# Altium footprint library Mounting_Wuerth.PcbLib: 191 footprints (part 6 of 12)
Each footprint in its own frame and in the unit in brackets; x right, y up, seen from the top. Pads: shape width x height; smd on the part's side, far side on the other; paste and mask are expansions set on the pad; w line width, h text height; cw(c..) or ccw(c..) is an arc to the next point about the centre after c.
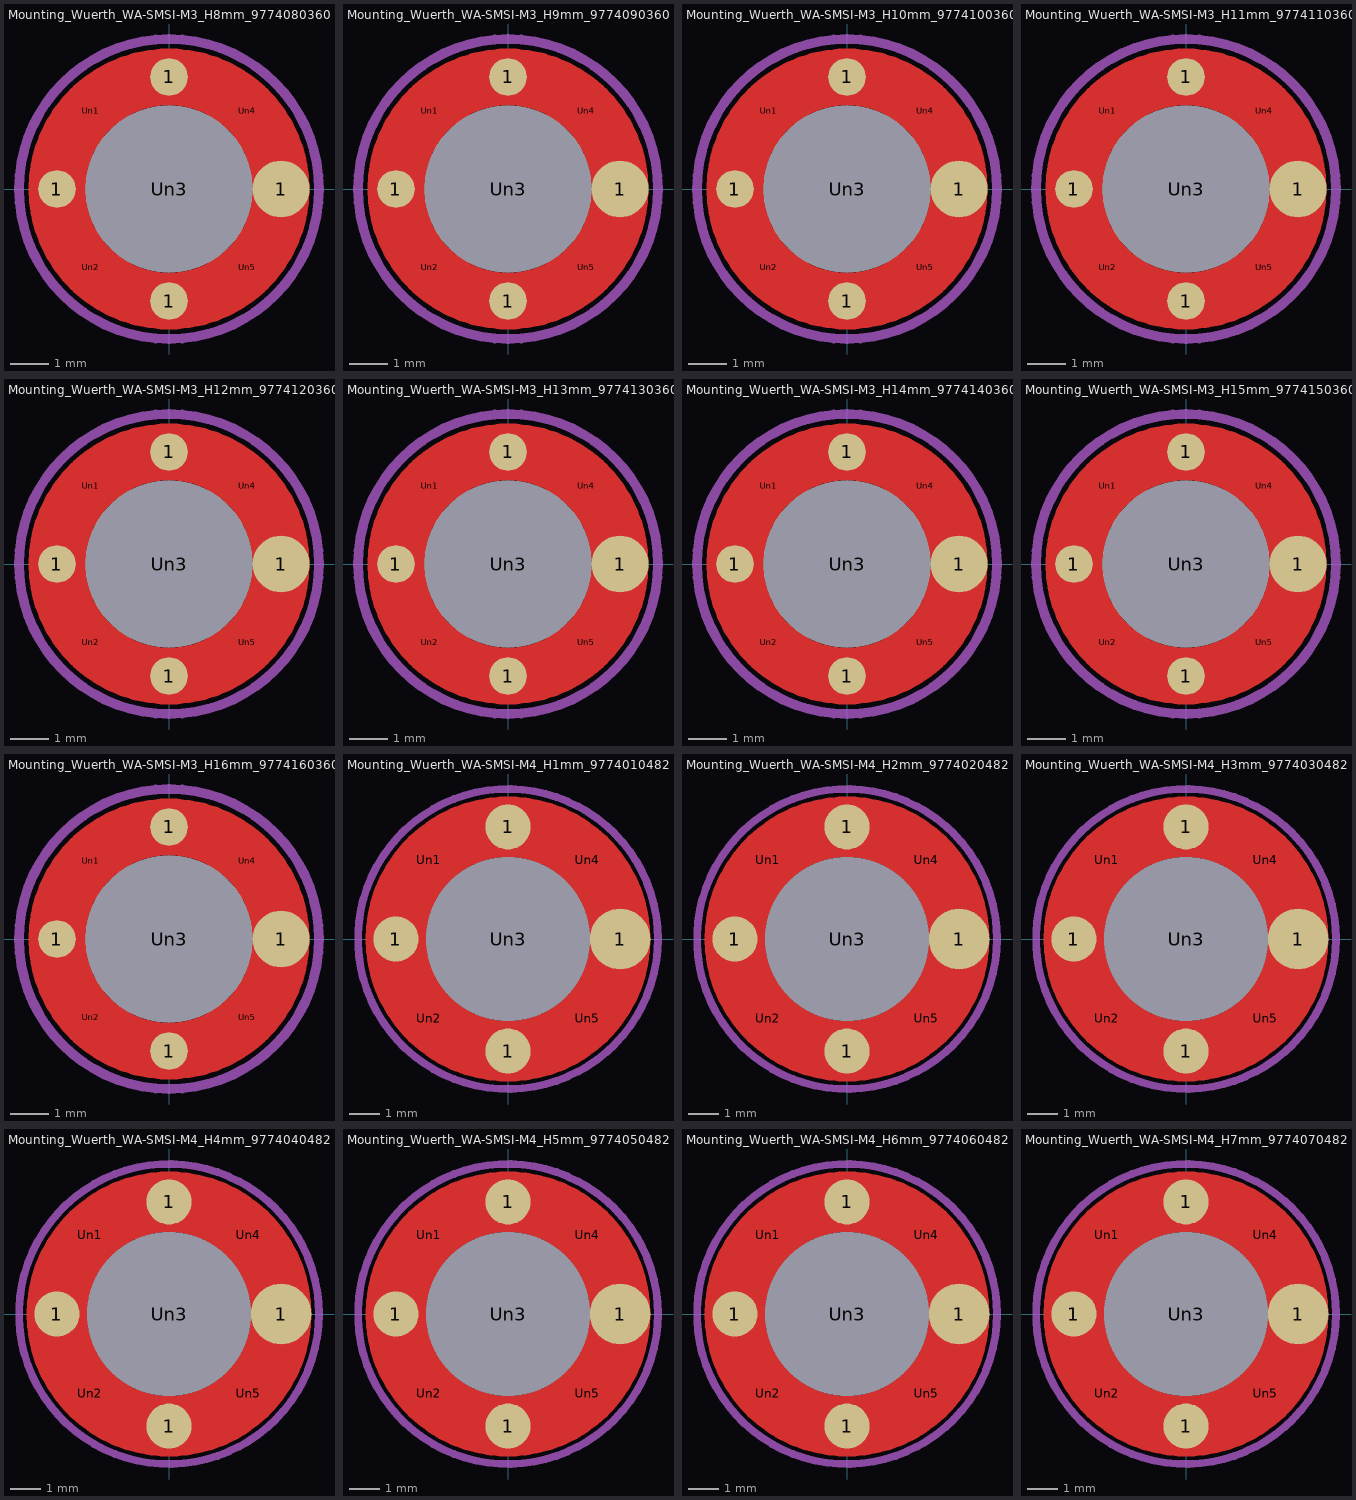
[diagram p5: the footprints below, top view; thin cyan lines are the x and y axes]

## Mounting_Wuerth_WA-SMSI-M3_H8mm_9774080360 [mm]
pads (9):
  round 0.992 smd: 1(-2.95,0) 1(0,-2.95) 1(0,2.95)
  round 1.5 smd: 1(2.95,0)
  round 0.55 on Top Paste: Un1(-2.058,2.058) Un2(-2.058,-2.058) Un4(2.058,2.058) Un5(2.058,-2.058)
  round 4.4 hole 4.4: Un3(0,0)
F.Cu:
  circle w1.5: c0,0 r2.95
F.Paste:
  lines w0.2: -3.342,-0.35 -2.435,-0.35 ; -3.342,0.35 -2.435,0.35 ; -0.35,-3.342 -0.35,-2.435 ; -0.35,2.435 -0.35,3.342 ; 0.35,-3.342 0.35,-2.435 ; 0.35,2.435 0.35,3.342 ; 2.435,-0.35 3.342,-0.35 ; 2.435,0.35 3.342,0.35
F.Mask:
  circle w1.5: c0,0 r2.95
Top Assembly:
  circle w0.254: c0,0 r3
  text "'.Designator'" at -4.047,-0.84 h1
Top Courtyard:
  circle w0.254: c0,0 r3.95
Top Designator:
  text ".Designator" at -7.677,-0.508 h1.52
3D body "Mounting_Wuerth_WA-SMSI-M3_H8mm_9774080360.step": height 8, standoff -1.4, extent -3,-3 3,3

## Mounting_Wuerth_WA-SMSI-M3_H9mm_9774090360 [mm]
pads (9):
  round 0.992 smd: 1(-2.95,0) 1(0,-2.95) 1(0,2.95)
  round 1.5 smd: 1(2.95,0)
  round 0.55 on Top Paste: Un1(-2.058,2.058) Un2(-2.058,-2.058) Un4(2.058,2.058) Un5(2.058,-2.058)
  round 4.4 hole 4.4: Un3(0,0)
F.Cu:
  circle w1.5: c0,0 r2.95
F.Paste:
  lines w0.2: -3.342,-0.35 -2.435,-0.35 ; -3.342,0.35 -2.435,0.35 ; -0.35,-3.342 -0.35,-2.435 ; -0.35,2.435 -0.35,3.342 ; 0.35,-3.342 0.35,-2.435 ; 0.35,2.435 0.35,3.342 ; 2.435,-0.35 3.342,-0.35 ; 2.435,0.35 3.342,0.35
F.Mask:
  circle w1.5: c0,0 r2.95
Top Assembly:
  circle w0.254: c0,0 r3
  text "'.Designator'" at -4.047,-0.84 h1
Top Courtyard:
  circle w0.254: c0,0 r3.95
Top Designator:
  text ".Designator" at -7.677,-0.508 h1.52
3D body "Mounting_Wuerth_WA-SMSI-M3_H9mm_9774090360.step": height 9, standoff -1.4, extent -3,-3 3,3

## Mounting_Wuerth_WA-SMSI-M3_H10mm_9774100360 [mm]
pads (9):
  round 0.992 smd: 1(-2.95,0) 1(0,-2.95) 1(0,2.95)
  round 1.5 smd: 1(2.95,0)
  round 0.55 on Top Paste: Un1(-2.058,2.058) Un2(-2.058,-2.058) Un4(2.058,2.058) Un5(2.058,-2.058)
  round 4.4 hole 4.4: Un3(0,0)
F.Cu:
  circle w1.5: c0,0 r2.95
F.Paste:
  lines w0.2: -3.342,-0.35 -2.435,-0.35 ; -3.342,0.35 -2.435,0.35 ; -0.35,-3.342 -0.35,-2.435 ; -0.35,2.435 -0.35,3.342 ; 0.35,-3.342 0.35,-2.435 ; 0.35,2.435 0.35,3.342 ; 2.435,-0.35 3.342,-0.35 ; 2.435,0.35 3.342,0.35
F.Mask:
  circle w1.5: c0,0 r2.95
Top Assembly:
  circle w0.254: c0,0 r3
  text "'.Designator'" at -4.047,-0.84 h1
Top Courtyard:
  circle w0.254: c0,0 r3.95
Top Designator:
  text ".Designator" at -7.677,-0.508 h1.52
3D body "Mounting_Wuerth_WA-SMSI-M3_H10mm_9774100360.step": height 10, standoff -1.4, extent -3,-3 3,3

## Mounting_Wuerth_WA-SMSI-M3_H11mm_9774110360 [mm]
pads (9):
  round 0.992 smd: 1(-2.95,0) 1(0,-2.95) 1(0,2.95)
  round 1.5 smd: 1(2.95,0)
  round 0.55 on Top Paste: Un1(-2.058,2.058) Un2(-2.058,-2.058) Un4(2.058,2.058) Un5(2.058,-2.058)
  round 4.4 hole 4.4: Un3(0,0)
F.Cu:
  circle w1.5: c0,0 r2.95
F.Paste:
  lines w0.2: -3.342,-0.35 -2.435,-0.35 ; -3.342,0.35 -2.435,0.35 ; -0.35,-3.342 -0.35,-2.435 ; -0.35,2.435 -0.35,3.342 ; 0.35,-3.342 0.35,-2.435 ; 0.35,2.435 0.35,3.342 ; 2.435,-0.35 3.342,-0.35 ; 2.435,0.35 3.342,0.35
F.Mask:
  circle w1.5: c0,0 r2.95
Top Assembly:
  circle w0.254: c0,0 r3
  text "'.Designator'" at -4.047,-0.84 h1
Top Courtyard:
  circle w0.254: c0,0 r3.95
Top Designator:
  text ".Designator" at -7.677,-0.508 h1.52
3D body "Mounting_Wuerth_WA-SMSI-M3_H11mm_9774110360.step": height 11, standoff -1.4, extent -3,-3 3,3

## Mounting_Wuerth_WA-SMSI-M3_H12mm_9774120360 [mm]
pads (9):
  round 0.992 smd: 1(-2.95,0) 1(0,-2.95) 1(0,2.95)
  round 1.5 smd: 1(2.95,0)
  round 0.55 on Top Paste: Un1(-2.058,2.058) Un2(-2.058,-2.058) Un4(2.058,2.058) Un5(2.058,-2.058)
  round 4.4 hole 4.4: Un3(0,0)
F.Cu:
  circle w1.5: c0,0 r2.95
F.Paste:
  lines w0.2: -3.342,-0.35 -2.435,-0.35 ; -3.342,0.35 -2.435,0.35 ; -0.35,-3.342 -0.35,-2.435 ; -0.35,2.435 -0.35,3.342 ; 0.35,-3.342 0.35,-2.435 ; 0.35,2.435 0.35,3.342 ; 2.435,-0.35 3.342,-0.35 ; 2.435,0.35 3.342,0.35
F.Mask:
  circle w1.5: c0,0 r2.95
Top Assembly:
  circle w0.254: c0,0 r3
  text "'.Designator'" at -4.047,-0.84 h1
Top Courtyard:
  circle w0.254: c0,0 r3.95
Top Designator:
  text ".Designator" at -7.677,-0.508 h1.52
3D body "Mounting_Wuerth_WA-SMSI-M3_H12mm_9774120360.step": height 12, standoff -1.4, extent -3,-3 3,3

## Mounting_Wuerth_WA-SMSI-M3_H13mm_9774130360 [mm]
pads (9):
  round 0.992 smd: 1(-2.95,0) 1(0,-2.95) 1(0,2.95)
  round 1.5 smd: 1(2.95,0)
  round 0.55 on Top Paste: Un1(-2.058,2.058) Un2(-2.058,-2.058) Un4(2.058,2.058) Un5(2.058,-2.058)
  round 4.4 hole 4.4: Un3(0,0)
F.Cu:
  circle w1.5: c0,0 r2.95
F.Paste:
  lines w0.2: -3.342,-0.35 -2.435,-0.35 ; -3.342,0.35 -2.435,0.35 ; -0.35,-3.342 -0.35,-2.435 ; -0.35,2.435 -0.35,3.342 ; 0.35,-3.342 0.35,-2.435 ; 0.35,2.435 0.35,3.342 ; 2.435,-0.35 3.342,-0.35 ; 2.435,0.35 3.342,0.35
F.Mask:
  circle w1.5: c0,0 r2.95
Top Assembly:
  circle w0.254: c0,0 r3
  text "'.Designator'" at -4.047,-0.84 h1
Top Courtyard:
  circle w0.254: c0,0 r3.95
Top Designator:
  text ".Designator" at -7.677,-0.508 h1.52
3D body "Mounting_Wuerth_WA-SMSI-M3_H13mm_9774130360.step": height 13, standoff -1.4, extent -3,-3 3,3

## Mounting_Wuerth_WA-SMSI-M3_H14mm_9774140360 [mm]
pads (9):
  round 0.992 smd: 1(-2.95,0) 1(0,-2.95) 1(0,2.95)
  round 1.5 smd: 1(2.95,0)
  round 0.55 on Top Paste: Un1(-2.058,2.058) Un2(-2.058,-2.058) Un4(2.058,2.058) Un5(2.058,-2.058)
  round 4.4 hole 4.4: Un3(0,0)
F.Cu:
  circle w1.5: c0,0 r2.95
F.Paste:
  lines w0.2: -3.342,-0.35 -2.435,-0.35 ; -3.342,0.35 -2.435,0.35 ; -0.35,-3.342 -0.35,-2.435 ; -0.35,2.435 -0.35,3.342 ; 0.35,-3.342 0.35,-2.435 ; 0.35,2.435 0.35,3.342 ; 2.435,-0.35 3.342,-0.35 ; 2.435,0.35 3.342,0.35
F.Mask:
  circle w1.5: c0,0 r2.95
Top Assembly:
  circle w0.254: c0,0 r3
  text "'.Designator'" at -4.047,-0.84 h1
Top Courtyard:
  circle w0.254: c0,0 r3.95
Top Designator:
  text ".Designator" at -7.677,-0.508 h1.52
3D body "Mounting_Wuerth_WA-SMSI-M3_H14mm_9774140360.step": height 14, standoff -1.4, extent -3,-3 3,3

## Mounting_Wuerth_WA-SMSI-M3_H15mm_9774150360 [mm]
pads (9):
  round 0.992 smd: 1(-2.95,0) 1(0,-2.95) 1(0,2.95)
  round 1.5 smd: 1(2.95,0)
  round 0.55 on Top Paste: Un1(-2.058,2.058) Un2(-2.058,-2.058) Un4(2.058,2.058) Un5(2.058,-2.058)
  round 4.4 hole 4.4: Un3(0,0)
F.Cu:
  circle w1.5: c0,0 r2.95
F.Paste:
  lines w0.2: -3.342,-0.35 -2.435,-0.35 ; -3.342,0.35 -2.435,0.35 ; -0.35,-3.342 -0.35,-2.435 ; -0.35,2.435 -0.35,3.342 ; 0.35,-3.342 0.35,-2.435 ; 0.35,2.435 0.35,3.342 ; 2.435,-0.35 3.342,-0.35 ; 2.435,0.35 3.342,0.35
F.Mask:
  circle w1.5: c0,0 r2.95
Top Assembly:
  circle w0.254: c0,0 r3
  text "'.Designator'" at -4.047,-0.84 h1
Top Courtyard:
  circle w0.254: c0,0 r3.95
Top Designator:
  text ".Designator" at -7.677,-0.508 h1.52
3D body "Mounting_Wuerth_WA-SMSI-M3_H15mm_9774150360.step": height 15, standoff -1.4, extent -3,-3 3,3

## Mounting_Wuerth_WA-SMSI-M3_H16mm_9774160360 [mm]
pads (9):
  round 0.992 smd: 1(-2.95,0) 1(0,-2.95) 1(0,2.95)
  round 1.5 smd: 1(2.95,0)
  round 0.55 on Top Paste: Un1(-2.058,2.058) Un2(-2.058,-2.058) Un4(2.058,2.058) Un5(2.058,-2.058)
  round 4.4 hole 4.4: Un3(0,0)
F.Cu:
  circle w1.5: c0,0 r2.95
F.Paste:
  lines w0.2: -3.342,-0.35 -2.435,-0.35 ; -3.342,0.35 -2.435,0.35 ; -0.35,-3.342 -0.35,-2.435 ; -0.35,2.435 -0.35,3.342 ; 0.35,-3.342 0.35,-2.435 ; 0.35,2.435 0.35,3.342 ; 2.435,-0.35 3.342,-0.35 ; 2.435,0.35 3.342,0.35
F.Mask:
  circle w1.5: c0,0 r2.95
Top Assembly:
  circle w0.254: c0,0 r3
  text "'.Designator'" at -4.047,-0.84 h1
Top Courtyard:
  circle w0.254: c0,0 r3.95
Top Designator:
  text ".Designator" at -7.677,-0.508 h1.52

## Mounting_Wuerth_WA-SMSI-M4_H1mm_9774010482 [mm]
pads (9):
  round 1.492 smd: 1(-3.7,0) 1(0,-3.7) 1(0,3.7)
  round 2 smd: 1(3.7,0)
  round 0.947 on Top Paste: Un1(-2.607,2.607) Un2(-2.607,-2.607) Un4(2.607,2.607) Un5(2.607,-2.607)
  round 5.4 hole 5.4: Un3(0,0)
F.Cu:
  circle w2: c0,0 r3.7
F.Paste:
  lines w0.2: -4.507,-0.5 -2.796,-0.5 ; -4.507,0.5 -2.796,0.5 ; -0.5,-4.507 -0.5,-2.796 ; -0.5,2.796 -0.5,4.507 ; 0.5,-4.507 0.5,-2.796 ; 0.5,2.796 0.5,4.507 ; 2.796,-0.5 4.507,-0.5 ; 2.796,0.5 4.507,0.5
F.Mask:
  circle w2: c0,0 r3.7
Top Assembly:
  circle w0.254: c0,0 r4.1
  text "'.Designator'" at -4.047,-0.84 h1
Top Courtyard:
  circle w0.254: c0,0 r4.95
Top Designator:
  text ".Designator" at -7.618,-0.508 h1.52

## Mounting_Wuerth_WA-SMSI-M4_H2mm_9774020482 [mm]
pads (9):
  round 1.492 smd: 1(-3.7,0) 1(0,-3.7) 1(0,3.7)
  round 2 smd: 1(3.7,0)
  round 0.947 on Top Paste: Un1(-2.607,2.607) Un2(-2.607,-2.607) Un4(2.607,2.607) Un5(2.607,-2.607)
  round 5.4 hole 5.4: Un3(0,0)
F.Cu:
  circle w2: c0,0 r3.7
F.Paste:
  lines w0.2: -4.507,-0.5 -2.796,-0.5 ; -4.507,0.5 -2.796,0.5 ; -0.5,-4.507 -0.5,-2.796 ; -0.5,2.796 -0.5,4.507 ; 0.5,-4.507 0.5,-2.796 ; 0.5,2.796 0.5,4.507 ; 2.796,-0.5 4.507,-0.5 ; 2.796,0.5 4.507,0.5
F.Mask:
  circle w2: c0,0 r3.7
Top Assembly:
  circle w0.254: c0,0 r4.1
  text "'.Designator'" at -4.047,-0.84 h1
Top Courtyard:
  circle w0.254: c0,0 r4.95
Top Designator:
  text ".Designator" at -7.618,-0.508 h1.52

## Mounting_Wuerth_WA-SMSI-M4_H3mm_9774030482 [mm]
pads (9):
  round 1.492 smd: 1(-3.7,0) 1(0,-3.7) 1(0,3.7)
  round 2 smd: 1(3.7,0)
  round 0.947 on Top Paste: Un1(-2.607,2.607) Un2(-2.607,-2.607) Un4(2.607,2.607) Un5(2.607,-2.607)
  round 5.4 hole 5.4: Un3(0,0)
F.Cu:
  circle w2: c0,0 r3.7
F.Paste:
  lines w0.2: -4.507,-0.5 -2.796,-0.5 ; -4.507,0.5 -2.796,0.5 ; -0.5,-4.507 -0.5,-2.796 ; -0.5,2.796 -0.5,4.507 ; 0.5,-4.507 0.5,-2.796 ; 0.5,2.796 0.5,4.507 ; 2.796,-0.5 4.507,-0.5 ; 2.796,0.5 4.507,0.5
F.Mask:
  circle w2: c0,0 r3.7
Top Assembly:
  circle w0.254: c0,0 r4.1
  text "'.Designator'" at -4.047,-0.84 h1
Top Courtyard:
  circle w0.254: c0,0 r4.95
Top Designator:
  text ".Designator" at -7.618,-0.508 h1.52

## Mounting_Wuerth_WA-SMSI-M4_H4mm_9774040482 [mm]
pads (9):
  round 1.492 smd: 1(-3.7,0) 1(0,-3.7) 1(0,3.7)
  round 2 smd: 1(3.7,0)
  round 0.947 on Top Paste: Un1(-2.607,2.607) Un2(-2.607,-2.607) Un4(2.607,2.607) Un5(2.607,-2.607)
  round 5.4 hole 5.4: Un3(0,0)
F.Cu:
  circle w2: c0,0 r3.7
F.Paste:
  lines w0.2: -4.507,-0.5 -2.796,-0.5 ; -4.507,0.5 -2.796,0.5 ; -0.5,-4.507 -0.5,-2.796 ; -0.5,2.796 -0.5,4.507 ; 0.5,-4.507 0.5,-2.796 ; 0.5,2.796 0.5,4.507 ; 2.796,-0.5 4.507,-0.5 ; 2.796,0.5 4.507,0.5
F.Mask:
  circle w2: c0,0 r3.7
Top Assembly:
  circle w0.254: c0,0 r4.1
  text "'.Designator'" at -4.047,-0.84 h1
Top Courtyard:
  circle w0.254: c0,0 r4.95
Top Designator:
  text ".Designator" at -7.618,-0.508 h1.52

## Mounting_Wuerth_WA-SMSI-M4_H5mm_9774050482 [mm]
pads (9):
  round 1.492 smd: 1(-3.7,0) 1(0,-3.7) 1(0,3.7)
  round 2 smd: 1(3.7,0)
  round 0.947 on Top Paste: Un1(-2.607,2.607) Un2(-2.607,-2.607) Un4(2.607,2.607) Un5(2.607,-2.607)
  round 5.4 hole 5.4: Un3(0,0)
F.Cu:
  circle w2: c0,0 r3.7
F.Paste:
  lines w0.2: -4.507,-0.5 -2.796,-0.5 ; -4.507,0.5 -2.796,0.5 ; -0.5,-4.507 -0.5,-2.796 ; -0.5,2.796 -0.5,4.507 ; 0.5,-4.507 0.5,-2.796 ; 0.5,2.796 0.5,4.507 ; 2.796,-0.5 4.507,-0.5 ; 2.796,0.5 4.507,0.5
F.Mask:
  circle w2: c0,0 r3.7
Top Assembly:
  circle w0.254: c0,0 r4.1
  text "'.Designator'" at -4.047,-0.84 h1
Top Courtyard:
  circle w0.254: c0,0 r4.95
Top Designator:
  text ".Designator" at -7.618,-0.508 h1.52

## Mounting_Wuerth_WA-SMSI-M4_H6mm_9774060482 [mm]
pads (9):
  round 1.492 smd: 1(-3.7,0) 1(0,-3.7) 1(0,3.7)
  round 2 smd: 1(3.7,0)
  round 0.947 on Top Paste: Un1(-2.607,2.607) Un2(-2.607,-2.607) Un4(2.607,2.607) Un5(2.607,-2.607)
  round 5.4 hole 5.4: Un3(0,0)
F.Cu:
  circle w2: c0,0 r3.7
F.Paste:
  lines w0.2: -4.507,-0.5 -2.796,-0.5 ; -4.507,0.5 -2.796,0.5 ; -0.5,-4.507 -0.5,-2.796 ; -0.5,2.796 -0.5,4.507 ; 0.5,-4.507 0.5,-2.796 ; 0.5,2.796 0.5,4.507 ; 2.796,-0.5 4.507,-0.5 ; 2.796,0.5 4.507,0.5
F.Mask:
  circle w2: c0,0 r3.7
Top Assembly:
  circle w0.254: c0,0 r4.1
  text "'.Designator'" at -4.047,-0.84 h1
Top Courtyard:
  circle w0.254: c0,0 r4.95
Top Designator:
  text ".Designator" at -7.618,-0.508 h1.52

## Mounting_Wuerth_WA-SMSI-M4_H7mm_9774070482 [mm]
pads (9):
  round 1.492 smd: 1(-3.7,0) 1(0,-3.7) 1(0,3.7)
  round 2 smd: 1(3.7,0)
  round 0.947 on Top Paste: Un1(-2.607,2.607) Un2(-2.607,-2.607) Un4(2.607,2.607) Un5(2.607,-2.607)
  round 5.4 hole 5.4: Un3(0,0)
F.Cu:
  circle w2: c0,0 r3.7
F.Paste:
  lines w0.2: -4.507,-0.5 -2.796,-0.5 ; -4.507,0.5 -2.796,0.5 ; -0.5,-4.507 -0.5,-2.796 ; -0.5,2.796 -0.5,4.507 ; 0.5,-4.507 0.5,-2.796 ; 0.5,2.796 0.5,4.507 ; 2.796,-0.5 4.507,-0.5 ; 2.796,0.5 4.507,0.5
F.Mask:
  circle w2: c0,0 r3.7
Top Assembly:
  circle w0.254: c0,0 r4.1
  text "'.Designator'" at -4.047,-0.84 h1
Top Courtyard:
  circle w0.254: c0,0 r4.95
Top Designator:
  text ".Designator" at -7.618,-0.508 h1.52